# Altium schematic symbol library Schlib_NXP_Semiconductors.SchLib: 33 symbols
Pins are listed as number, name and electrical type; pins without a type are passive.

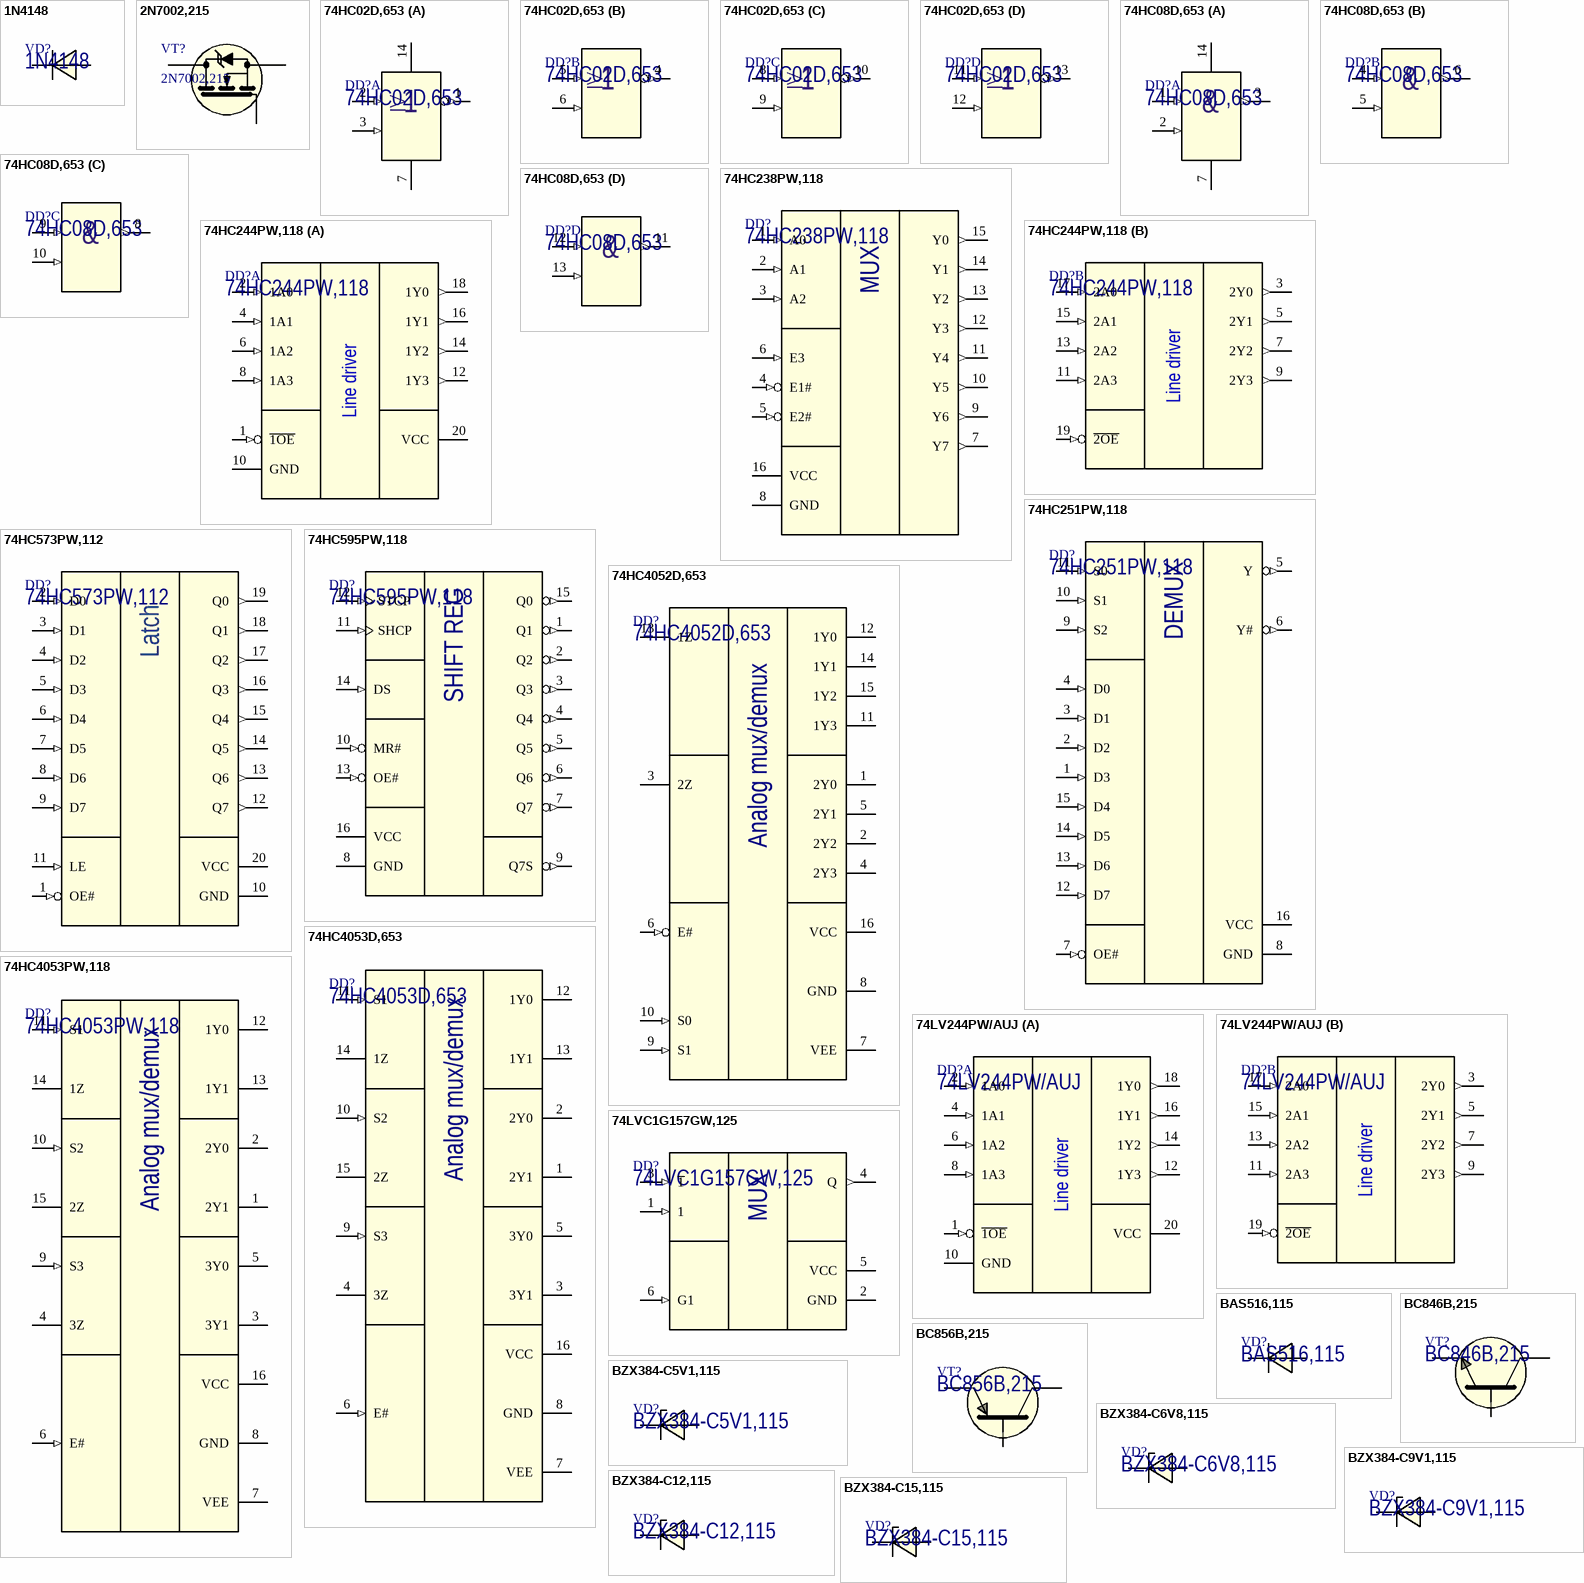
[diagram p0: symbols 1N4148 to BZX384-C15,115]

## 1N4148
designator VD?
High-speed diode; Manufacturer: NXP USA Inc.; Package: DO-35; Part Number: 1N4148
footprint DO-35 GLASS LIGHT RED
footprint DO-35 GLASS LIGHT RED (VERTICAL)
pins: 1, 2

## 2N7002,215
designator VT?
60 V, 300 mA N-channel Trench MOSFET; Manufacturer: NXP USA Inc.; Part Number: 2N7002,215; Package: SOT23-3
footprint SOT23-3 (SOT23, 6-Leads, Body 2.90x2.80mm, Pitch 0.95mm, IPC Medium Density)
pins: 1 G, 2 S, 3 D

## 74HC02D,653
designator DD?
Quad 2-input NOR gate; Manufacturer: NXP USA Inc.; Package: SOIC-14; Part Number: 74HC02D,653
footprint SOIC-14 (package SOIC-14, 150 mil)
part A pins: 1 1Y (out), 2 1A (in), 3 1B (in), 7 GND (power), 14 VCC (power)
part B pins: 4 2Y (out), 5 2A (in), 6 2B (in)
part C pins: 8 3A (in), 9 3B (in), 10 3Y (out)
part D pins: 11 4A (in), 12 4B (in), 13 4Y (out)

## 74HC08D,653
designator DD?
Quad 2-input AND gate; Manufacturer: NXP USA Inc.; Package: SOIC-14; Part Number: 74HC08D,653
footprint SOIC-14 (package SOIC-14, 150 mil)
part A pins: 1 1A (in), 2 1B (in), 3 1Y (out), 7 GND (power), 14 VCC (power)
part B pins: 4 2A (in), 5 2B (in), 6 2Y (out)
part C pins: 8 3Y (out), 9 3A (in), 10 3B (in)
part D pins: 11 4Y (out), 12 4A (in), 13 4B (in)
part A text: &
part B text: &
part C text: &
part D text: &

## 74HC238PW,118
designator DD?
3-to-8 line decoder/demultiplexer; Manufacturer: NXP USA Inc.; Package: TSSOP-16; Part Number: 74HC238PW,118
footprint TSSOP-16 (TSOP, 20-Leads, Body 6.50x4.40mm, Pitch 0.65mm, IPC Medium Density)
pins: 1 A0 (in), 2 A1 (in), 3 A2 (in), 4 E1# (in), 5 E2# (in), 6 E3 (in), 7 Y7 (out), 8 GND (power), 9 Y6 (out), 10 Y5 (out), 11 Y4 (out), 12 Y3 (out), 13 Y2 (out), 14 Y1 (out), 15 Y0 (out), 16 VCC (power)
text: MUX

## 74HC244PW,118
designator DD?
Line driver 8 bits; Manufacturer: NXP USA Inc.; Package: TSSOP-20; Part Number: 74HC244PW,118
footprint TSSOP-20 (TSOP, 20-Leads, Body 6.50x4.40mm, Pitch 0.65mm, IPC Medium Density)
part A pins: 1 ~{1OE} (in), 2 1A0 (in), 4 1A1 (in), 6 1A2 (in), 8 1A3 (in), 10 GND (power), 12 1Y3 (out), 14 1Y2 (out), 16 1Y1 (out), 18 1Y0 (out), 20 VCC (power)
part B pins: 3 2Y0 (out), 5 2Y1 (out), 7 2Y2 (out), 9 2Y3 (out), 11 2A3 (in), 13 2A2 (in), 15 2A1 (in), 17 2A0 (in), 19 ~{2OE} (in)
part A text: Line driver
part B text: Line driver

## 74HC251PW,118
designator DD?
8-input multiplexer; 3-state; Manufacturer: NXP USA Inc.; Package: TSSOP-16; Part Number: 74HC251PW,118
footprint TSSOP-16 (TSOP, 20-Leads, Body 6.50x4.40mm, Pitch 0.65mm, IPC Medium Density)
pins: 1 D3 (in), 2 D2 (in), 3 D1 (in), 4 D0 (in), 5 Y (out), 6 Y# (out), 7 OE# (in), 8 GND (power), 9 S2 (in), 10 S1 (in), 11 S0 (in), 12 D7 (in), 13 D6 (in), 14 D5 (in), 15 D4 (in), 16 VCC (power)
text: DEMUX

## 74HC573PW,112
designator DD?
Octal D-type transparent latch; 3-state; Manufacturer: NXP USA Inc.; Package: TSSOP-16; Part Number: 74HC573PW,112
footprint TSSOP-20 (TSOP, 20-Leads, Body 6.50x4.40mm, Pitch 0.65mm, IPC Medium Density)
pins: 1 OE# (in), 2 D0 (in), 3 D1 (in), 4 D2 (in), 5 D3 (in), 6 D4 (in), 7 D5 (in), 8 D6 (in), 9 D7 (in), 10 GND (power), 11 LE (in), 12 Q7 (out), 13 Q6 (out), 14 Q5 (out), 15 Q4 (out), 16 Q3 (out), 17 Q2 (out), 18 Q1 (out), 19 Q0 (out), 20 VCC (power)
text: Latch

## 74HC595PW,118
designator DD?
8-bit serial-in, serial or parallel-out shift register with output latches; 3-state; Manufacturer: NXP USA Inc.; Package: TSSOP-16; Part Number: 74HC595PW,118
footprint TSSOP-16 (TSOP, 20-Leads, Body 6.50x4.40mm, Pitch 0.65mm, IPC Medium Density)
pins: 1 Q1 (out), 2 Q2 (out), 3 Q3 (out), 4 Q4 (out), 5 Q5 (out), 6 Q6 (out), 7 Q7 (out), 8 GND (power), 9 Q7S (out), 10 MR# (in), 11 SHCP (in), 12 STCP (in), 13 OE# (in), 14 DS (in), 15 Q0 (out), 16 VCC (power)
text: SHIFT REG

## 74HC4052D,653
designator DD?
Dual 4-channel analog multiplexer/demultiplexer; Manufacturer: NXP USA Inc.; Package: SO-16; Part Number: 74HC4052D,653
footprint SOIC-16 (package SOIC-16, 150 mil)
pins: 1 2Y0, 2 2Y2, 3 2Z, 4 2Y3, 5 2Y1, 6 E# (in), 7 VEE (power), 8 GND (power), 9 S1 (in), 10 S0 (in), 11 1Y3, 12 1Y0, 13 1Z, 14 1Y1, 15 1Y2, 16 VCC (power)
text: Analog mux/demux

## 74HC4053D,653
designator DD?
Triple 2-channel analog multiplexer/demultiplexer; Manufacturer: NXP USA Inc.; Package: SOIC-16; Part Number: 74HC4053D,653
footprint SOIC-16 (package SOIC-16, 150 mil)
pins: 1 2Y1, 2 2Y0, 3 3Y1, 4 3Z, 5 3Y0, 6 E# (in), 7 VEE (power), 8 GND (power), 9 S3 (in), 10 S2 (in), 11 S1 (in), 12 1Y0, 13 1Y1, 14 1Z, 15 2Z, 16 VCC (power)
text: Analog mux/demux

## 74HC4053PW,118
designator DD?
Triple 2-channel analog multiplexer/demultiplexer; Manufacturer: NXP USA Inc.; Package: TSSOP-16; Part Number: 74HC4053PW,118
footprint TSSOP-16 (TSOP, 20-Leads, Body 6.50x4.40mm, Pitch 0.65mm, IPC Medium Density)
pins: 1 2Y1, 2 2Y0, 3 3Y1, 4 3Z, 5 3Y0, 6 E# (in), 7 VEE (power), 8 GND (power), 9 S3 (in), 10 S2 (in), 11 S1 (in), 12 1Y0, 13 1Y1, 14 1Z, 15 2Z, 16 VCC (power)
text: Analog mux/demux

## 74LV244PW/AUJ
designator DD?
Line driver 8 bits; Manufacturer: NXP USA Inc.; Package: TSSOP-20; Part Number: 74LV244PW/AUJ
footprint TSSOP-20 (TSOP, 20-Leads, Body 6.50x4.40mm, Pitch 0.65mm, IPC Medium Density)
part A pins: 1 ~{1OE} (in), 2 1A0 (in), 4 1A1 (in), 6 1A2 (in), 8 1A3 (in), 10 GND (power), 12 1Y3 (out), 14 1Y2 (out), 16 1Y1 (out), 18 1Y0 (out), 20 VCC (power)
part B pins: 3 2Y0 (out), 5 2Y1 (out), 7 2Y2 (out), 9 2Y3 (out), 11 2A3 (in), 13 2A2 (in), 15 2A1 (in), 17 2A0 (in), 19 ~{2OE} (in)
part A text: Line driver
part B text: Line driver

## 74LVC1G157GW,125
designator DD?
Single 2-input multiplexer; Manufacturer: NXP USA Inc.; Package: TSSOP-6; Part Number: 74LVC1G157GW,125
footprint TSSOP-6
pins: 1 (in), 2 GND (power), 3 ~{1} (in), 4 Q (out), 5 VCC (power), 6 G1 (in)
text: MUX

## BAS516,115
designator VD?
High-speed switching diode; Manufacturer: NXP USA Inc.; Package: SOD-523; Part Number: BAS516,115
footprint SOD-523
pins: 1, 2

## BC846B,215
designator VT?
General Purpose n-p-n Transistors; Manufacturer: Nexperia USA Inc.; Package: SOT23-3; Part Number: BC846B,215
footprint SOT23-3 (SOT23, 6-Leads, Body 2.90x2.80mm, Pitch 0.95mm, IPC Medium Density)
pins: 1 B, 2 E, 3 C

## BC856B,215
designator VT?
General Purpose p-n-p Transistors; Manufacturer: Nexperia USA Inc.; Package: SOT23-3; Part Number: BC856B,215
footprint SOT23-3 (SOT23, 6-Leads, Body 2.90x2.80mm, Pitch 0.95mm, IPC Medium Density)
pins: 1 B, 2 E, 3 C

## BZX384-C5V1,115
designator VD?
Voltage regulator diodes 5.1V; Manufacturer: Nexperia USA Inc.; Package: SOD-323; Part Number: BZX384-C5V1,115
footprint SOD-323
pins: 1, 2

## BZX384-C6V8,115
designator VD?
Voltage regulator diodes 6.8V; Manufacturer: Nexperia USA Inc.; Package: SOD-323; Part Number: BZX384-C6V8,115
footprint SOD-323
pins: 1, 2

## BZX384-C9V1,115
designator VD?
Voltage regulator diodes 9.1V; Manufacturer: Nexperia USA Inc.; Package: SOD-323; Part Number: BZX384-C9V1,115
footprint SOD-323
pins: 1, 2

## BZX384-C12,115
designator VD?
Voltage regulator diodes 12V; Manufacturer: Nexperia USA Inc.; Package: SOD-323; Part Number: BZX384-C12,115
footprint SOD-323
pins: 1, 2

## BZX384-C15,115
designator VD?
Voltage regulator diodes 15V; Manufacturer: Nexperia USA Inc.; Package: SOD-323; Part Number: BZX384-C15,115
footprint SOD-323
pins: 1, 2

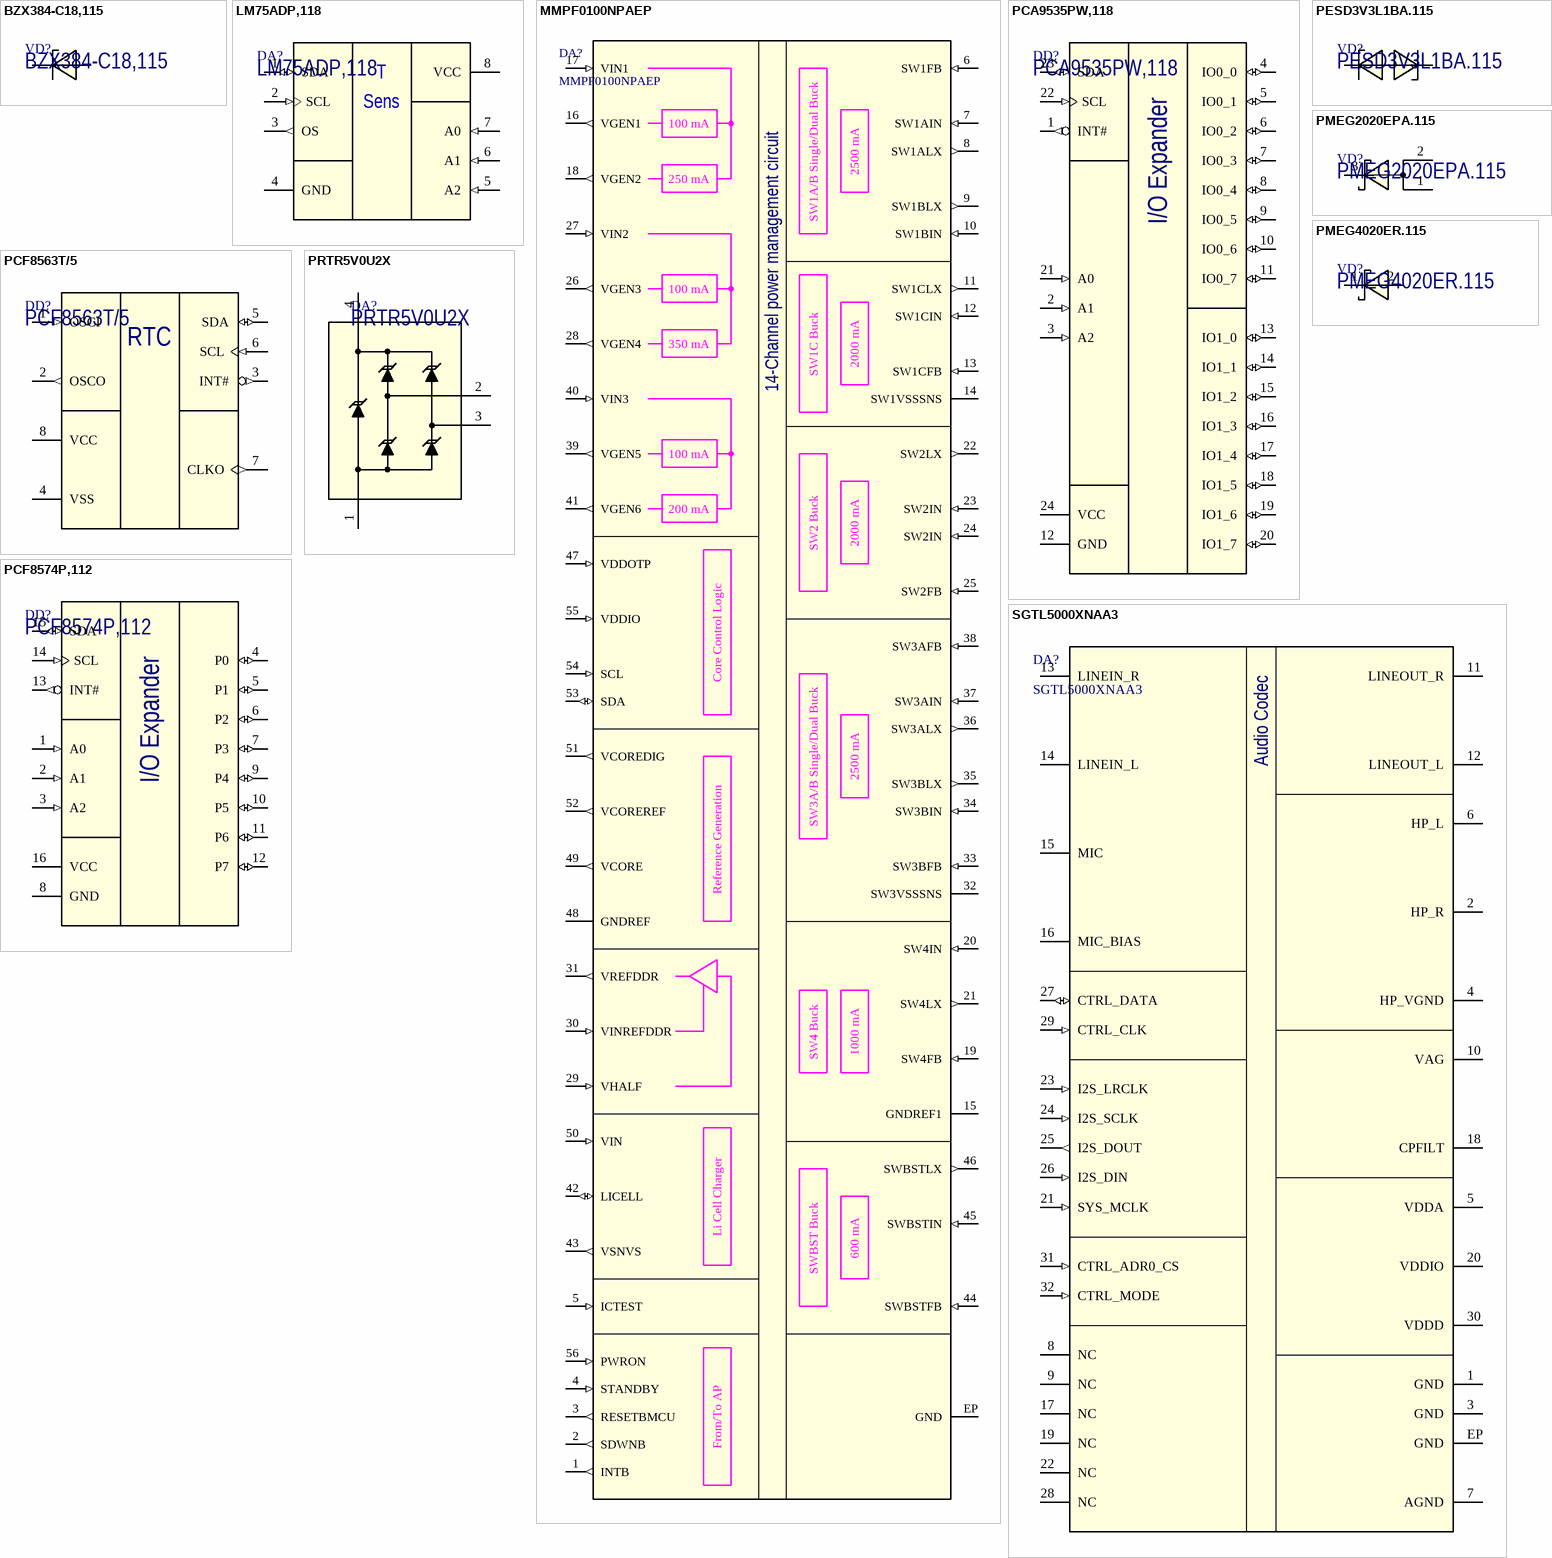
[diagram p1: symbols BZX384-C18,115 to SGTL5000XNAA3]

## BZX384-C18,115
designator VD?
Voltage regulator diodes 18V; Manufacturer: Nexperia USA Inc.; Package: SOD-323; Part Number: BZX384-C18,115
footprint SOD-323
pins: 1, 2

## LM75ADP,118
designator DA?
Digital temperature sensor and thermal watchdog -55C..+125C; Manufacturer: NXP USA Inc.; Package: MSOP-8; Part Number: LM75ADP,118
footprint MSOP-8 (TSOP, 8-Leads, Body 3.00x3.00mm, Pitch 0.65mm, IPC Medium Density)
pins: 1 SDA (io), 2 SCL (in), 3 OS (out), 4 GND (power), 5 A2 (in), 6 A1 (in), 7 A0 (in), 8 VCC (power)
text: T; Sens

## MMPF0100NPAEP
designator DA?
14 channel configurable power management integrated circuit; Manufacturer: NXP USA Inc.; Part Number: MMPF0100NPAEP; Package: QFN-56
footprint QFN56_MMPF0100 (QFN56 package, 8x8mm, 0.5mm pitch)
pins: 1 INTB (out), 2 SDWNB (out), 3 RESETBMCU (out), 4 STANDBY (in), 5 ICTEST (in), 6 SW1FB (in), 7 SW1AIN (in), 8 SW1ALX (out), 9 SW1BLX (out), 10 SW1BIN (in), 11 SW1CLX (out), 12 SW1CIN (in), 13 SW1CFB (in), 14 SW1VSSSNS (power), 15 GNDREF1 (power), 16 VGEN1 (out), 17 VIN1 (in), 18 VGEN2 (out), 19 SW4FB (in), 20 SW4IN (in), 21 SW4LX (out), 22 SW2LX (out), 23 SW2IN (in), 24 SW2IN (in), 25 SW2FB (in), 26 VGEN3 (out), 27 VIN2 (in), 28 VGEN4 (out), 29 VHALF (in), 30 VINREFDDR (in), 31 VREFDDR (out), 32 SW3VSSSNS (power), 33 SW3BFB (in), 34 SW3BIN (in), 35 SW3BLX (out), 36 SW3ALX (out), 37 SW3AIN (in), 38 SW3AFB (in), 39 VGEN5 (out), 40 VIN3 (in), 41 VGEN6 (out), 42 LICELL (io), 43 VSNVS (out), 44 SWBSTFB (in), 45 SWBSTIN (in), 46 SWBSTLX (out), 47 VDDOTP (in), 48 GNDREF (power), 49 VCORE (out), 50 VIN (in), 51 VCOREDIG (out), 52 VCOREREF (out), 53 SDA (io), 54 SCL (in), 55 VDDIO (in), 56 PWRON (in), EP GND (power)
text: 100 mA; SW1A/B Single/Dual Buck; 2500 mA; 250 mA; 14-Channel power management circuit; 350 mA; SW1C Buck; 2000 mA; 200 mA; SW2 Buck; Core Control Logic; SW3A/B Single/Dual Buck; Reference Generation; SW4 Buck; 1000 mA; Li Cell Charger; SWBST Buck; 600 mA; From/To AP

## PCA9535PW,118
designator DD?
16-bit I2C-bus and SMBus, low power I/O port with interrupt; Manufacturer: NXP USA Inc.; AltManufacturer: 3Peak; Alternative: TPT29555-TS5R; Package: TSSOP-24; Part Number: PCA9535PW,118
footprint TSSOP-24 (TSOP, 24-Leads, Pitch 0.65mm, IPC Medium Density)
pins: 1 INT# (out), 2 A1 (in), 3 A2 (in), 4 IO0_0 (io), 5 IO0_1 (io), 6 IO0_2 (io), 7 IO0_3 (io), 8 IO0_4 (io), 9 IO0_5 (io), 10 IO0_6 (io), 11 IO0_7 (io), 12 GND (power), 13 IO1_0 (io), 14 IO1_1 (io), 15 IO1_2 (io), 16 IO1_3 (io), 17 IO1_4 (io), 18 IO1_5 (io), 19 IO1_6 (io), 20 IO1_7 (io), 21 A0 (in), 22 SCL (in), 23 SDA (io), 24 VCC (power)
text: I/O Expander

## PCF8563T/5
designator DD?
Real-time clock/calendar; Manufacturer: NXP USA Inc.; Package: SOIC-8; Part Number: PCF8563T/5
footprint SOIC-8 (SOIC-8 package)
pins: 1 OSCI (in), 2 OSCO (out), 3 INT# (out), 4 VSS (power), 5 SDA (io), 6 SCL (in), 7 CLKO (out), 8 VCC (power)
text: RTC

## PCF8574P,112
designator DD?
Remote 8-bit I/O expander for I2C-bus; Manufacturer: NXP USA Inc.; Package: DIP-16; Part Number: PCF8574P,112
footprint DIP-16P-M03 (Plastic DIP, 16 pin, lead pitch 2.54mm (0.1"), row spacing 7.62mm (0.3"))
pins: 1 A0 (in), 2 A1 (in), 3 A2 (in), 4 P0 (io), 5 P1 (io), 6 P2 (io), 7 P3 (io), 8 GND (power), 9 P4 (io), 10 P5 (io), 11 P6 (io), 12 P7 (io), 13 INT# (out), 14 SCL (in), 15 SDA (io), 16 VCC (power)
text: I/O Expander

## PESD3V3L1BA.115
designator VD?
Low capacitance bidirectional ESD protection diode; Manufacturer: Nexperia USA Inc.; Package: SOT23-3; Part Number: PESD3V3L1BA.115
footprint SOD-323_2C
pins: 1 C1, 2 C2

## PMEG2020EPA.115
designator VD?
2A Schottky barrier rectifier; Manufacturer: NXP USA Inc.; Package: SOT1061; Part Number: PMEG2020EPA.115
footprint SOT1061
pins: 1, 2, 3

## PMEG4020ER.115
designator VD?
2A Schottky barrier rectifier; Manufacturer: NXP USA Inc.; Package: SOD123W; Part Number: PMEG4020ER.115
footprint SOD123W
pins: 1, 2

## PRTR5V0U2X
designator DA?
Ultra low capacitance double rail-to-rail ESD protection diode; Manufacturer: NXP USA Inc.; Part Number: PRTR5V0U2X; Package: SOT-143
footprint SOT143 (SOT143, 4-Leads, Body 2.92x2.37mm, Pitch 1.90mm, IPC Medium Density)
pins: 1 GND, 2 IO1, 3 IO2, 4 VCC

## SGTL5000XNAA3
designator DA?
Low Power Stereo Codec with Headphone Amp; Manufacturer: NXP USA Inc.; Part Number: SGTL5000XNAA3; Package: QFN-32
footprint QFN32_SGTL5000
pins: 1 GND (power), 2 HP_R, 3 GND (power), 4 HP_VGND (power), 5 VDDA (power), 6 HP_L, 7 AGND (power), 8 NC (hiz), 9 NC (hiz), 10 VAG, 11 LINEOUT_R, 12 LINEOUT_L, 13 LINEIN_R, 14 LINEIN_L, 15 MIC, 16 MIC_BIAS, 17 NC (hiz), 18 CPFILT, 19 NC (hiz), 20 VDDIO (power), 21 SYS_MCLK (in), 22 NC (hiz), 23 I2S_LRCLK (in), 24 I2S_SCLK (in), 25 I2S_DOUT (out), 26 I2S_DIN (in), 27 CTRL_DATA (io), 28 NC (hiz), 29 CTRL_CLK (in), 30 VDDD (power), 31 CTRL_ADR0_CS (in), 32 CTRL_MODE (in), EP GND (power)
text: Audio Codec